# EAGLE library part TPS2500DRCT (library minibox-parts)
INTEGRATED USB POWER SWITCH WITH BOOST CONVERTER
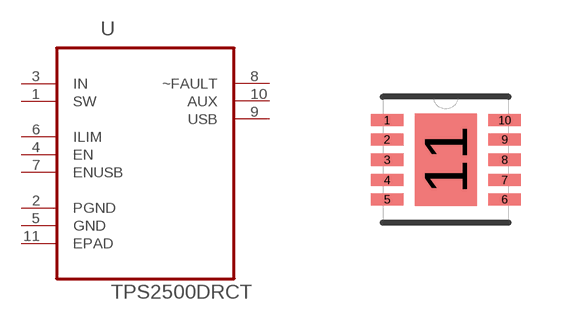
[diagram p7: symbol with the pads of SON50P300X300X100-11N; footprint SON50P300X300X100-11N]

Designator prefix U

## TPS2500DRCT (MPN: TPS2500DRCT; OC_FARNELL: 1774589; OC_NEWARK: 29R0268; PACKAGE: SON-10; SUPPLIER: Texas Instruments)  [SON50P300X300X100-11N]
1  SW  pwr
2  PGND  pas
3  IN  pwr
4  EN  in
5  GND  pas
6  ILIM  in
7  ENUSB  in
8  ~FAULT  out
9  USB  out
10  AUX  out
11  EPAD  pas

## Footprint SON50P300X300X100-11N (pad centres in mm)
smd 0.813 x 0.305: 1 -1.473,0.991; 2 -1.473,0.508; 3 -1.473,0; 4 -1.473,-0.508; 5 -1.473,-0.991; 6 1.473,-0.991; 7 1.473,-0.508; 8 1.473,0; 9 1.473,0.508; 10 1.473,0.991
smd 1.549 x 2.311: 11 0,0